# EAGLE library part ARDUINO_UNO_R3_SHIELD (library FaBo-Boards)
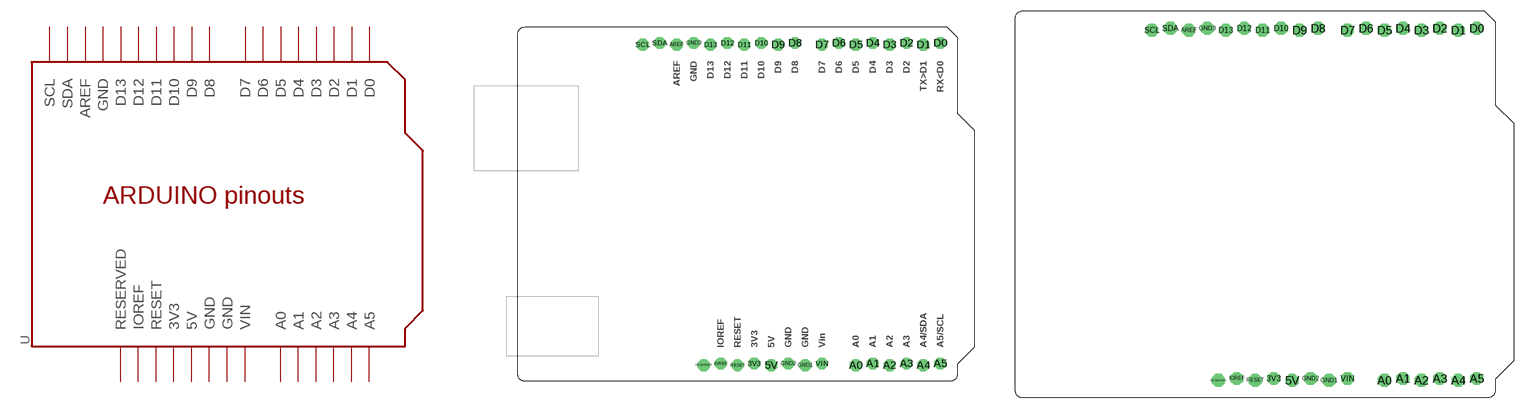
[diagram p0: symbol with the pads of ARDUINO_UNO_R3; footprints ARDUINO_UNO_R3, ARDUINO_UNO_R3_NOLABEL]

Designator prefix U

## ARDUINO_UNO_R3_SHIELD  [ARDUINO_UNO_R3]
3V3  3V3  pwr
5V  5V  pwr
A0  A0
A1  A1
A2  A2
A3  A3
A4  A4
A5  A5
AREF  AREF
D0  D0
D1  D1
D2  D2
D3  D3
D4  D4
D5  D5
D6  D6
D7  D7
D8  D8
D9  D9
D10  D10
D11  D11
D12  D12
D13  D13
GND1  GND  pwr
GND2  GND  pwr
GND3  GND  pwr
IOREF  IOREF  out
RESERVED  RESERVED  nc
RESET  RESET
SCL  SCL
SDA  SDA
VIN  VIN  pwr

## ARDUINO_UNO_R3_SHIELD-NOLABEL  [ARDUINO_UNO_R3_NOLABEL]
Pads as for ARDUINO_UNO_R3

## ARDUINO_UNO_R3_SHIELD-HOLE  [ARDUINO_UNO_R3_HOLE]
Pads as for ARDUINO_UNO_R3

## ARDUINO_UNO_R3_SHIELD-OUTIN  [ARDUINO_SHIELD_OUTIN]
Pads as for ARDUINO_UNO_R3

## ARDUINO_UNO_R3_SHIELD-NUCLEO  [NUCLEO]
Pads as for ARDUINO_UNO_R3

## Footprint ARDUINO_UNO_R3 (pad centres in mm)
drill 1 pad 1.778 octagon: 3V3 35.56,2.667; 5V 38.1,2.413; A0 50.8,2.413; A1 53.34,2.667; A2 55.88,2.413; A3 58.42,2.667; A4 60.96,2.413; A5 63.5,2.667; AREF 23.876,50.673; D0 63.5,50.927; D1 60.96,50.673; D2 58.42,50.927; D3 55.88,50.673; D4 53.34,50.927; D5 50.8,50.673; D6 48.26,50.927; D7 45.72,50.673; D8 41.656,50.927; D9 39.116,50.673; D10 36.576,50.927; D11 34.036,50.673; D12 31.496,50.927; D13 28.956,50.673; GND1 43.18,2.413; GND2 40.64,2.667; GND3 26.416,50.927; IOREF 30.48,2.667; RESERVED 27.94,2.413; RESET 33.02,2.413; SCL 18.796,50.673; SDA 21.336,50.927; VIN 45.72,2.667

## Footprint ARDUINO_UNO_R3_NOLABEL (pad centres in mm)
drill 1 pad 1.778 octagon: 3V3 35.56,2.667; 5V 38.1,2.413; A0 50.8,2.413; A1 53.34,2.667; A2 55.88,2.413; A3 58.42,2.667; A4 60.96,2.413; A5 63.5,2.667; AREF 23.876,50.673; D0 63.5,50.927; D1 60.96,50.673; D2 58.42,50.927; D3 55.88,50.673; D4 53.34,50.927; D5 50.8,50.673; D6 48.26,50.927; D7 45.72,50.673; D8 41.656,50.927; D9 39.116,50.673; D10 36.576,50.927; D11 34.036,50.673; D12 31.496,50.927; D13 28.956,50.673; GND1 43.18,2.413; GND2 40.64,2.667; GND3 26.416,50.927; IOREF 30.48,2.667; RESERVED 27.94,2.413; RESET 33.02,2.413; SCL 18.796,50.673; SDA 21.336,50.927; VIN 45.72,2.667

## Footprint ARDUINO_UNO_R3_HOLE (pad centres in mm)
drill 1 pad 1.778 octagon: 3V3 35.56,2.667; 5V 38.1,2.413; A0 50.8,2.413; A1 53.34,2.667; A2 55.88,2.413; A3 58.42,2.667; A4 60.96,2.413; A5 63.5,2.667; AREF 23.876,50.673; D0 63.5,50.927; D1 60.96,50.673; D2 58.42,50.927; D3 55.88,50.673; D4 53.34,50.927; D5 50.8,50.673; D6 48.26,50.927; D7 45.72,50.673; D8 41.656,50.927; D9 39.116,50.673; D10 36.576,50.927; D11 34.036,50.673; D12 31.496,50.927; D13 28.956,50.673; GND1 43.18,2.413; GND2 40.64,2.667; GND3 26.416,50.927; IOREF 30.48,2.667; RESERVED 27.94,2.413; RESET 33.02,2.413; SCL 18.796,50.8; SDA 21.336,50.927; VIN 45.72,2.667

## Footprint ARDUINO_SHIELD_OUTIN (pad centres in mm)
drill 1 pad 1.778 octagon: 3V3 35.56,2.667; 5V 38.1,2.413; A0 50.8,2.413; A1 53.34,2.667; A2 55.88,2.413; A3 58.42,2.667; A4 60.96,2.413; A5 63.5,2.667; AREF 23.876,50.673; D0 63.5,50.927; D1 60.96,50.673; D2 58.42,50.927; D3 55.88,50.673; D4 53.34,50.927; D5 50.8,50.673; D6 48.26,50.927; D7 45.72,50.673; D8 41.656,50.927; D9 39.116,50.673; D10 36.576,50.927; D11 34.036,50.673; D12 31.496,50.927; D13 28.956,50.673; GND1 43.18,2.413; GND2 40.64,2.667; GND3 26.416,50.927; IOREF 30.48,2.667; RESERVED 27.94,2.413; RESET 33.02,2.413; SCL 18.796,50.673; SDA 21.336,50.927; VIN 45.72,2.667

## Footprint NUCLEO (pad centres in mm)
drill 1.1 long: 3V3 35.56,10.16; 5V 38.1,10.16; A0 50.8,10.16; A1 53.34,10.16; A2 55.88,10.16; A3 58.42,10.16; A4 60.96,10.16; A5 63.5,10.16; AREF 23.876,58.42; D0 63.5,58.42; D1 60.96,58.42; D2 58.42,58.42; D3 55.88,58.42; D4 53.34,58.42; D5 50.8,58.42; D6 48.26,58.42; D7 45.72,58.42; D8 41.656,58.42; D9 39.116,58.42; D10 36.576,58.42; D11 34.036,58.42; D12 31.496,58.42; D13 28.956,58.42; GND1 43.18,10.16; GND2 40.64,10.16; GND3 26.416,58.42; IOREF 30.48,10.16; RESERVED 27.94,10.16; RESET 33.02,10.16; SCL 18.796,58.42; SDA 21.336,58.42; VIN 45.72,10.16